# Altium schematic symbol library Maxim.SchLib: 7 symbols
Pins are listed as number, name and electrical type; pins without a type are passive.

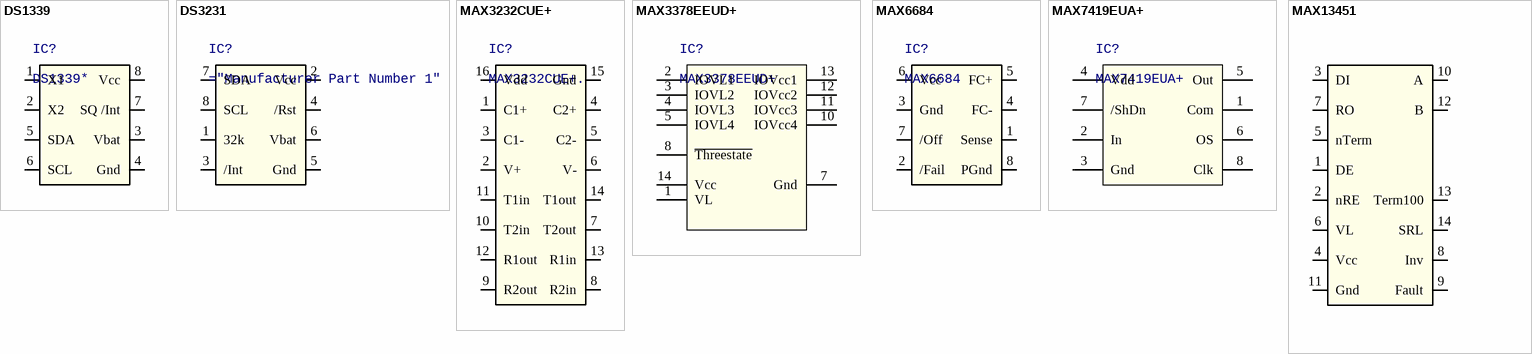
[diagram p0: symbols DS1339 to MAX13451]

## DS1339
designator IC?, comment DS1339*
Serial Real Time Clock; Manufacturer 1: Maxim; Manufacturer Part Number 1: DS1339*
footprint MSOP65P490X86-8N (TSOP, 8-Leads, Body 3.00x3.00mm, Pitch 0.65mm, IPC Medium Density)
pins: 1 X1, 2 X2, 3 Vbat, 4 Gnd (power), 5 SDA, 6 SCL, 7 SQ /Int, 8 Vcc (power)

## DS3231
designator IC?
Serial Real Time Clock
footprint SOIC127P590X175-8N (SOIC, 8-Leads, Body 4.90x3.90mm, Pitch 1.27mm, IPC Medium Density)
pins: 1 32k, 2 Vcc (power), 3 /Int, 4 /Rst, 5 Gnd (power), 6 Vbat, 7 SDA, 8 SCL

## MAX3232CUE+
designator IC?, comment MAX3232CUE+.
RS232 Transceiver with 15kV ESD protection; Manufacturer 1: MAXIM INTEGRATED PRODUCTS; Supplier 1: Farnell; Supplier Part Number 1: 1593350; Manufacturer Part Number 1: MAX3232CUE+.; ComponentLink1URL: http://www.farnell.com/datasheets/30957.pdf; ComponentLink1Description: http://www.farnell.com/datasheets/30957.pdf
footprint TSSOP65P640X120-16N (TSSOP, 16-Leads, Body 5.00x4.40mm, Pitch 0.65mm, IPC Medium Density)
pins: 1 C1+, 2 V+, 3 C1-, 4 C2+, 5 C2-, 6 V-, 7 T2out, 8 R2in, 9 R2out, 10 T2in, 11 T1in, 12 R1out, 13 R1in, 14 T1out, 15 Gnd (power), 16 Vdd (power)

## MAX3378EEUD+
designator IC?
Level Shifter, 1V2 < VL < Vcc < 5V5; Manufacturer 1: MAXIM INTEGRATED PRODUCTS; Anzahl der Eingänge: 4; Ausgangsstrom: 1; Anzahl der Pins: 14; Bauform: TSSOP; Versorgungsspannung, min.: 1.65; Versorgungsspannung, max.: 5.5; Betriebstemperatur, min.: -40; Betriebstemperatur, max.: 85; Logiktyp: Spannungspegelumsetzer; Verpackung: Gurtabschnitt; SVHC: No SVHC (15-Jun-2015); Abfallzeit tf: 20; Anschlussart: Oberflächenmontage; Anstiegszeit: 170; Betriebstemperatur: -40°C bis +85; IC-Nummer: 3378; IC-Temperaturbereich: Industrie; Logik-IC-Familie: Umsetzer; Logik-IC-Funktion: Translator; Umsetzertyp: Bidirectional Low Voltage; Versorgungsspannung: 1.65V bis 5.5V, 1.2V bis 5.5; Versorgungsstrom: 130; Übertragungsrate: 500Kbps<!--FANDB--><div class="features-and-benefits-container"><div class="features-and-benefits-description"><span class="features-benefits-value">The MAX3378EEUD+ is a 16Mbps dual low-voltage Level Translator. The ±15kV ESD-protected level translator provides the level shifting necessary to allow data transfer in a multi-voltage system. Externally applied voltages, Vcc and VL, set the logic levels on either side of the device. A low-voltage logic signal present on the VL side of the device appears as a high-voltage logic signal on the Vcc side of the device and vice-versa. The MAX3378E bidirectional level translator utilizes a transmission-gate-based design to allow data translation in either direction on any single data line. The MAX3378E accept VL from +1.2V to +5.5V and Vcc from +1.65V to +5.5V, making them ideal for data transfer between low-voltage ASICs/PLDs and higher voltage systems. The MAX3378E operate at a guaranteed data rate of 8Mbps over the entire specified operating voltage range. Within specific voltage domains, higher data rates are possible.</span></div><div class="features-and-benefits-list"><ul class="features-and-benefits-list-list"><li class="features-and-benefits-list-item">Bidirectional level translation</li><li class="features-and-benefits-list-item">Ultralow 1µA supply current in three-state output mode</li><li class="features-and-benefits-list-item">Low-quiescent current (130; Supplier 1: Farnell; Supplier Part Number 1: 1379711; Manufacturer Part Number 1: MAX3378EEUD+; Ausbreitungsverzögerung: 4; MSL: MSL 1 - unbegrenzt; Logik-IC-Sockelnummer: 3378; Logikfunktionsnummer: 3378; Sockelnummer: 3378; ComponentLink1URL: http://www.farnell.com/datasheets/1726416.pdf; ComponentLink1Description: http://www.farnell.com/datasheets/1726416.pdf
footprint TSSOP65P640X120-14N (TSSOP, 14-Leads, Body 5.00x4.40mm, Pitch 0.65mm, IPC Medium Density)
pins: 1 VL, 2 IOVL1, 3 IOVL2, 4 IOVL3, 5 IOVL4, 6 NC hidden, 7 Gnd, 8 ~{Threestate}, 9 NC hidden, 10 IOVcc4, 11 IOVcc3, 12 IOVcc2, 13 IOVcc1, 14 Vcc

## MAX6684
designator IC?
Fan-Failure Detector; Manufacturer 1: Maxim; Manufacturer Part Number 1: MAX6684
footprint SOIC127P590X175-8N (SOIC, 8-Leads, Body 4.90x3.90mm, Pitch 1.27mm, IPC Medium Density)
pins: 1 Sense, 2 /Fail, 3 Gnd (power), 4 FC-, 5 FC+, 6 Vcc (power), 7 /Off, 8 PGnd (power)

## MAX7419EUA+
designator IC?
Switched Capacitor Filter, 5th Grade; Manufacturer 1: Maxim; Supplier 1: RS; Supplier Part Number 1: 799-8119; Manufacturer Part Number 1: MAX7419EUA+
footprint MSOP65P490X86-8N (TSOP, 8-Leads, Body 3.00x3.00mm, Pitch 0.65mm, IPC Medium Density)
pins: 1 Com, 2 In, 3 Gnd (power), 4 Vdd (power), 5 Out, 6 OS, 7 /ShDn, 8 Clk

## MAX13451
designator IC?, comment MAX13451EAUD+
--; Manufacturer 1: Maxim; Value: *; Manufacturer Part Number 1: MAX13451EAUD+
footprint TSSOP65P640X120-14N (TSSOP, 14-Leads, Body 5.00x4.40mm, Pitch 0.65mm, IPC Medium Density)
pins: 1 DE, 2 nRE, 3 DI, 4 Vcc (power), 5 nTerm, 6 VL, 7 RO, 8 Inv, 9 Fault, 10 A, 11 Gnd (power), 12 B, 13 Term100, 14 SRL